# EAGLE library part AD9484BCPZ-500 (library My_Library_RADAR)
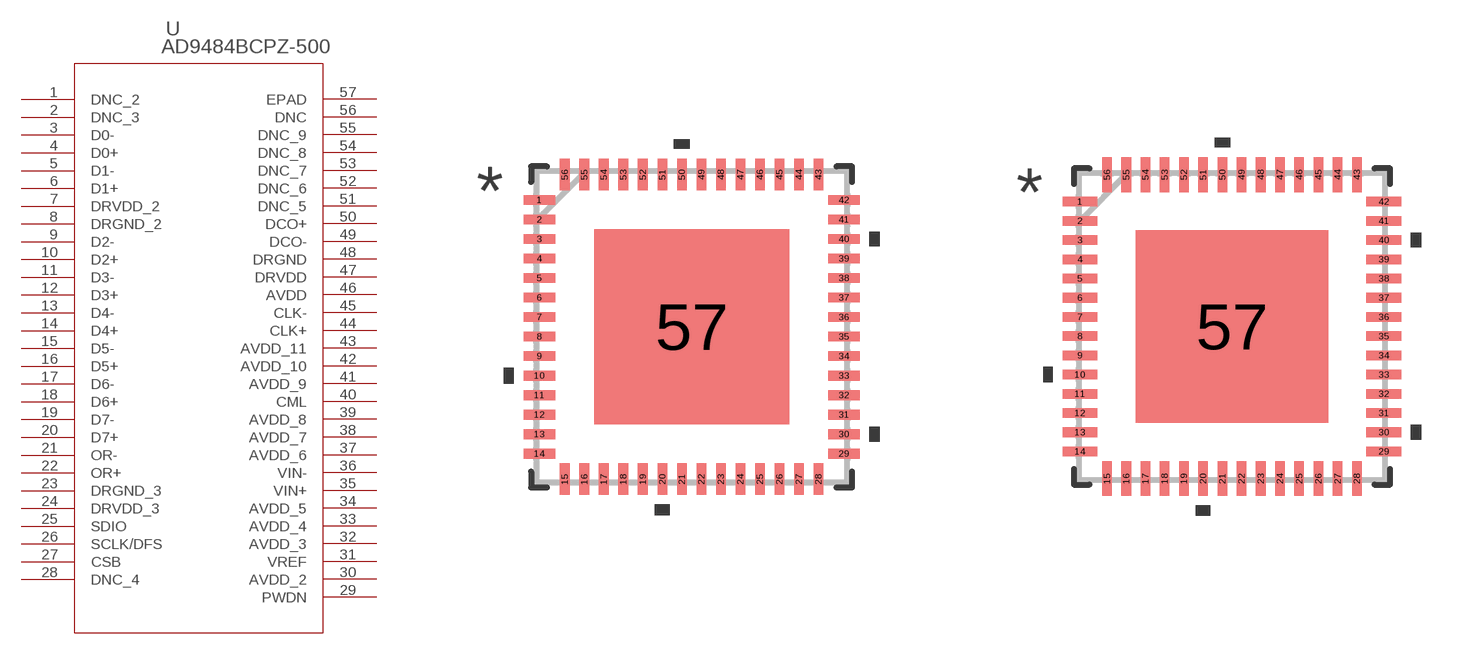
[diagram p20: symbol with the pads of CP_56_5_ADI; footprints CP_56_5_ADI, CP_56_5_ADI-M]

Designator prefix U

## AD9484BCPZ-500 (COPYRIGHT: Copyright (C) 2025 Ultra Librarian. All rights reserved.; DATASHEET: https://www.analog.com/media/en/technical-documentation/data-sheets/AD9484.pdf; DESCRIPTION: 8-Bit, 500 MSPS, 1.8 V Analog-to-Digital Converter; MANUFACTURER_NAME: Analog Devices Inc; MANUFACTURER_PART_NUMBER: AD9484BCPZ-500)  [CP_56_5_ADI]
1  DNC_2  nc
2  DNC_3  nc
3  D0-  out
4  D0+  out
5  D1-  out
6  D1+  out
7  DRVDD_2  pwr
8  DRGND_2  pwr
9  D2-  out
10  D2+  out
11  D3-  out
12  D3+  out
13  D4-  out
14  D4+  out
15  D5-  out
16  D5+  out
17  D6-  out
18  D6+  out
19  D7-  out
20  D7+  out
21  OR-  out
22  OR+  out
23  DRGND_3  pwr
24  DRVDD_3  pwr
25  SDIO
26  SCLK/DFS  pas
27  CSB  pas
28  DNC_4  nc
29  PWDN  pas
30  AVDD_2  pwr
31  VREF
32  AVDD_3  pwr
33  AVDD_4  pwr
34  AVDD_5  pwr
35  VIN+  in
36  VIN-  in
37  AVDD_6  pwr
38  AVDD_7  pwr
39  AVDD_8  pwr
40  CML  out
41  AVDD_9  pwr
42  AVDD_10  pwr
43  AVDD_11  pwr
44  CLK+  in
45  CLK-  in
46  AVDD  pwr
47  DRVDD  pwr
48  DRGND  pwr
49  DCO-  out
50  DCO+  out
51  DNC_5  nc
52  DNC_6  nc
53  DNC_7  nc
54  DNC_8  nc
55  DNC_9  nc
56  DNC  nc
57  EPAD  pas

## AD9484BCPZ-500CP_56_5_ADI-M (COPYRIGHT: Copyright (C) 2025 Ultra Librarian. All rights reserved.; DATASHEET: https://www.analog.com/media/en/technical-documentation/data-sheets/AD9484.pdf; DESCRIPTION: 8-Bit, 500 MSPS, 1.8 V Analog-to-Digital Converter; MANUFACTURER_NAME: Analog Devices Inc; MANUFACTURER_PART_NUMBER: AD9484BCPZ-500)  [CP_56_5_ADI-M]
Pads as for CP_56_5_ADI

## AD9484BCPZ-500CP_56_5_ADI-L (COPYRIGHT: Copyright (C) 2025 Ultra Librarian. All rights reserved.; DATASHEET: https://www.analog.com/media/en/technical-documentation/data-sheets/AD9484.pdf; DESCRIPTION: 8-Bit, 500 MSPS, 1.8 V Analog-to-Digital Converter; MANUFACTURER_NAME: Analog Devices Inc; MANUFACTURER_PART_NUMBER: AD9484BCPZ-500)  [CP_56_5_ADI-L]
Pads as for CP_56_5_ADI

## Footprint CP_56_5_ADI (pad centres in mm)
smd 0.805 x 0.249: 1 -3.902,3.25; 2 -3.902,2.75; 3 -3.902,2.25; 4 -3.902,1.75; 5 -3.902,1.25; 6 -3.902,0.75; 7 -3.902,0.25; 8 -3.902,-0.25; 9 -3.902,-0.75; 10 -3.902,-1.25; 11 -3.902,-1.75; 12 -3.902,-2.25; 13 -3.902,-2.75; 14 -3.902,-3.25; 29 3.902,-3.25; 30 3.902,-2.75; 31 3.902,-2.25; 32 3.902,-1.75; 33 3.902,-1.25; 34 3.902,-0.75; 35 3.902,-0.25; 36 3.902,0.25; 37 3.902,0.75; 38 3.902,1.25; 39 3.902,1.75; 40 3.902,2.25; 41 3.902,2.75; 42 3.902,3.25
smd 0.249 x 0.805: 15 -3.25,-3.902; 16 -2.75,-3.902; 17 -2.25,-3.902; 18 -1.75,-3.902; 19 -1.25,-3.902; 20 -0.75,-3.902; 21 -0.25,-3.902; 22 0.25,-3.902; 23 0.75,-3.902; 24 1.25,-3.902; 25 1.75,-3.902; 26 2.25,-3.902; 27 2.75,-3.902; 28 3.25,-3.902; 43 3.25,3.902; 44 2.75,3.902; 45 2.25,3.902; 46 1.75,3.902; 47 1.25,3.902; 48 0.75,3.902; 49 0.25,3.902; 50 -0.25,3.902; 51 -0.75,3.902; 52 -1.25,3.902; 53 -1.75,3.902; 54 -2.25,3.902; 55 -2.75,3.902; 56 -3.25,3.902
smd 5 x 5: 57 0,0

## Footprint CP_56_5_ADI-M (pad centres in mm)
smd 0.906 x 0.249: 1 -3.953,3.25; 2 -3.953,2.75; 3 -3.953,2.25; 4 -3.953,1.75; 5 -3.953,1.25; 6 -3.953,0.75; 7 -3.953,0.25; 8 -3.953,-0.25; 9 -3.953,-0.75; 10 -3.953,-1.25; 11 -3.953,-1.75; 12 -3.953,-2.25; 13 -3.953,-2.75; 14 -3.953,-3.25; 29 3.953,-3.25; 30 3.953,-2.75; 31 3.953,-2.25; 32 3.953,-1.75; 33 3.953,-1.25; 34 3.953,-0.75; 35 3.953,-0.25; 36 3.953,0.25; 37 3.953,0.75; 38 3.953,1.25; 39 3.953,1.75; 40 3.953,2.25; 41 3.953,2.75; 42 3.953,3.25
smd 0.249 x 0.906: 15 -3.25,-3.953; 16 -2.75,-3.953; 17 -2.25,-3.953; 18 -1.75,-3.953; 19 -1.25,-3.953; 20 -0.75,-3.953; 21 -0.25,-3.953; 22 0.25,-3.953; 23 0.75,-3.953; 24 1.25,-3.953; 25 1.75,-3.953; 26 2.25,-3.953; 27 2.75,-3.953; 28 3.25,-3.953; 43 3.25,3.953; 44 2.75,3.953; 45 2.25,3.953; 46 1.75,3.953; 47 1.25,3.953; 48 0.75,3.953; 49 0.25,3.953; 50 -0.25,3.953; 51 -0.75,3.953; 52 -1.25,3.953; 53 -1.75,3.953; 54 -2.25,3.953; 55 -2.75,3.953; 56 -3.25,3.953
smd 5 x 5: 57 0,0

## Footprint CP_56_5_ADI-L (pad centres in mm)
smd 0.703 x 0.249: 1 -3.852,3.25; 2 -3.852,2.75; 3 -3.852,2.25; 4 -3.852,1.75; 5 -3.852,1.25; 6 -3.852,0.75; 7 -3.852,0.25; 8 -3.852,-0.25; 9 -3.852,-0.75; 10 -3.852,-1.25; 11 -3.852,-1.75; 12 -3.852,-2.25; 13 -3.852,-2.75; 14 -3.852,-3.25; 29 3.852,-3.25; 30 3.852,-2.75; 31 3.852,-2.25; 32 3.852,-1.75; 33 3.852,-1.25; 34 3.852,-0.75; 35 3.852,-0.25; 36 3.852,0.25; 37 3.852,0.75; 38 3.852,1.25; 39 3.852,1.75; 40 3.852,2.25; 41 3.852,2.75; 42 3.852,3.25
smd 0.249 x 0.703: 15 -3.25,-3.852; 16 -2.75,-3.852; 17 -2.25,-3.852; 18 -1.75,-3.852; 19 -1.25,-3.852; 20 -0.75,-3.852; 21 -0.25,-3.852; 22 0.25,-3.852; 23 0.75,-3.852; 24 1.25,-3.852; 25 1.75,-3.852; 26 2.25,-3.852; 27 2.75,-3.852; 28 3.25,-3.852; 43 3.25,3.852; 44 2.75,3.852; 45 2.25,3.852; 46 1.75,3.852; 47 1.25,3.852; 48 0.75,3.852; 49 0.25,3.852; 50 -0.25,3.852; 51 -0.75,3.852; 52 -1.25,3.852; 53 -1.75,3.852; 54 -2.25,3.852; 55 -2.75,3.852; 56 -3.25,3.852
smd 5 x 5: 57 0,0